# EAGLE library part DRV8701P (library DRV devices)
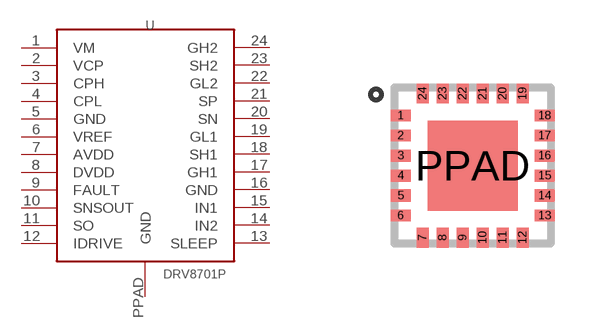
[diagram p0: symbol with the pads of VQFN24-PPAD; footprint VQFN24-PPAD]

Designator prefix U

## DRV8701P  [VQFN24-PPAD]
1  VM
2  VCP
3  CPH
4  CPL
5  GND
6  VREF
7  AVDD
8  DVDD
9  FAULT
10  SNSOUT
11  SO
12  IDRIVE
13  SLEEP
14  IN2
15  IN1
16  GND
17  GH1
18  SH1
19  GL1
20  SN
21  SP
22  GL2
23  SH2
24  GH2
PPAD  GND

## Footprint VQFN24-PPAD (pad centres in mm)
plastic thermal enhanced very thin quad flat package SOT616-1 no leads; 24 terminals; body 4 x 4 x 0.85 mm Source: PCA9555_5.pdf
smd 0.5 x 0.3: 1 -1.8,1.25; 2 -1.8,0.75; 3 -1.8,0.25; 4 -1.8,-0.25; 5 -1.8,-0.75; 6 -1.8,-1.25; 13 1.8,-1.25; 14 1.8,-0.75; 15 1.8,-0.25; 16 1.8,0.25; 17 1.8,0.75; 18 1.8,1.25
smd 0.3 x 0.5: 7 -1.25,-1.8; 8 -0.75,-1.8; 9 -0.25,-1.8; 10 0.25,-1.8; 11 0.75,-1.8; 12 1.25,-1.8; 19 1.25,1.8; 20 0.75,1.8; 21 0.25,1.8; 22 -0.25,1.8; 23 -0.75,1.8; 24 -1.25,1.8
smd 2.25 x 2.25: PPAD 0,0